# Altium schematic symbol library GRT155R61E474KE01D.SchLib: 1 symbol
Pins are listed as number, name and electrical type; pins without a type are passive.

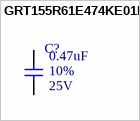
[diagram p0: symbol GRT155R61E474KE01D]

## GRT155R61E474KE01D
designator C?  Rated Voltage: 25V  Tolerance: 10%  Capacitence: 0.47uF  (hidden comment: GRT155R61E474KE01D)
CAP CER 0.47UF 25V X5R 0402; MFR: Murata Electronics; PN: GRT155R61E474KE01D; ComponentLink1Description: Datasheet; ComponentLink1URL: https://search.murata.co.jp/Ceramy/image/img/A01X/partnumbering_e_02.pdf; Temperature Coefficient: X5R; Package: 0402; Footprint: C0402; Supplier 1: Digi-Key; Supplier Part Number 1: 490-12269-1-ND
footprint C0402 (A generic C0402 footprint)
pins: 1, 2